# EAGLE library part LTA-1000X (library 0_skookumsynth_opto)
*UNVERIFIED* LED BAR GRAPH 10-SEGMENT MFG Part no: LTA-1000HR [RED], >LTA-1000G [GREEN], LTA-1000Y [YELLOW] Digikey SKU: 160-1066-ND [RED], 160-1067-ND [GREEN], 160-1068-ND [YELLOW] Mouser SKU
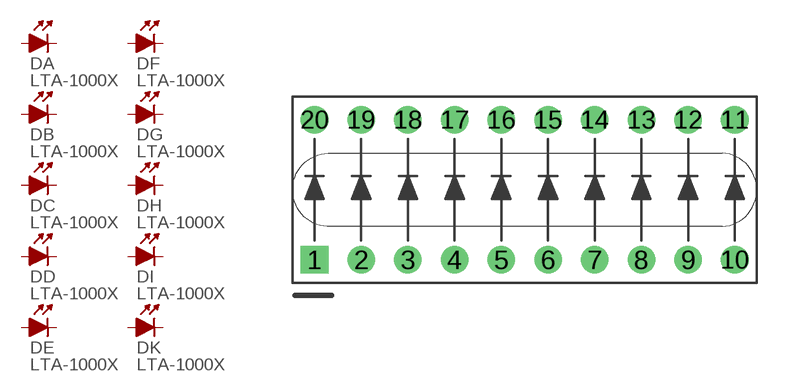
[diagram p0: symbol with the pads of LTA; footprint LTA]

Designator prefix D; gates A=LED B=LED C=LED D=LED E=LED F=LED G=LED H=LED I=LED K=LED

## LTA-1000X_PTH  [LTA]
1  A:A+  pas
2  B:A+  pas
3  C:A+  pas
4  D:A+  pas
5  E:A+  pas
6  F:A+  pas
7  G:A+  pas
8  H:A+  pas
9  I:A+  pas
10  K:A+  pas
11  K:K-  pas
12  I:K-  pas
13  H:K-  pas
14  G:K-  pas
15  F:K-  pas
16  E:K-  pas
17  D:K-  pas
18  C:K-  pas
19  B:K-  pas
20  A:K-  pas

## Footprint LTA (pad centres in mm)
drill 0.8 pad 1.5 square: 1 -11.43,-3.81
drill 0.8 pad 1.5: 2 -8.89,-3.81; 3 -6.35,-3.81; 4 -3.81,-3.81; 5 -1.27,-3.81; 6 1.27,-3.81; 7 3.81,-3.81; 8 6.35,-3.81; 9 8.89,-3.81; 10 11.43,-3.81; 11 11.43,3.81; 12 8.89,3.81; 13 6.35,3.81; 14 3.81,3.81; 15 1.27,3.81; 16 -1.27,3.81; 17 -3.81,3.81; 18 -6.35,3.81; 19 -8.89,3.81; 20 -11.43,3.81